# EAGLE library part SWITCH-DPDT (library synth)
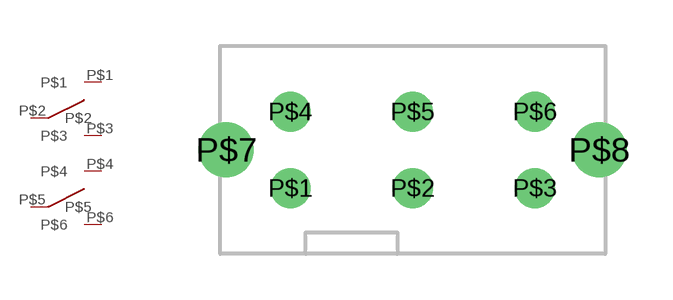
[diagram p6: symbol with the pads of DPDT; footprint DPDT]

Designator prefix -

## SWITCH-DPDT  [DPDT]
P$1  P$1
P$2  P$2
P$3  P$3
P$4  P$4
P$5  P$5
P$6  P$6

## Footprint DPDT (pad centres in mm)
drill 0.8: P$1 -4,-1.25; P$2 0,-1.25; P$3 4,-1.25; P$4 -4,1.25; P$5 0,1.25; P$6 4,1.25
drill 1.2: P$7 -6.1,0; P$8 6.1,0